# EAGLE library part TEXAS_INSTRUMENTS-MUX/DEMUX-SN74LVC2G157_DCU_8 (library Module_ICs)
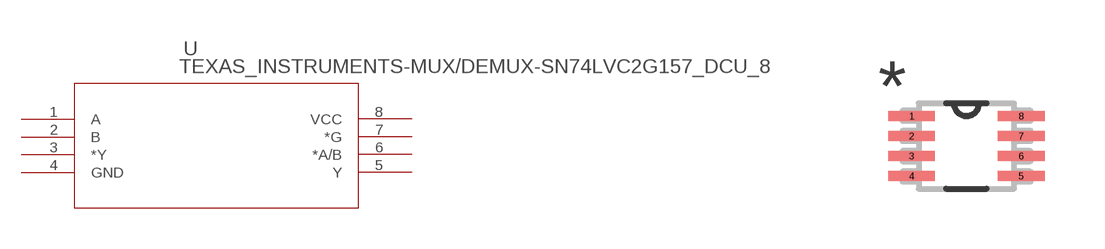
[diagram p10: symbol with the pads of TEXAS_INSTRUMENTS-MUX/DEMUX-SN74LVC2G157_DCU_8/SCHMITT_TRIGGER-SN74LVC3G17_DCU_8; footprint TEXAS_INSTRUMENTS-MUX/DEMUX-SN74LVC2G157_DCU_8/SCHMITT_TRIGGER-SN74LVC3G17_DCU_8]

Designator prefix U

## TEXAS_INSTRUMENTS-MUX/DEMUX-SN74LVC2G157_DCU_8 (DATASHEETURL: httpwww.ti.comlitgpnSN74LVC2G157; FAMILY_NAME: LL Decoder MuxDemux; GENERIC_PART_NUMBER: SN74LVC2G157; INDUSTRY_STD_PKG_TYPE: US8; MANUFACTURER: Texas Instruments; MANUFACTURER_PART_NUMBER: sn74lvc2g157_dcu_8; PACKAGE_DESIGNATOR: DCU; PIN_COUNT: 8; VENDOR: Texas Instruments)  [TEXAS_INSTRUMENTS-MUX/DEMUX-SN74LVC2G157_DCU_8/SCHMITT_TRIGGER-SN74LVC3G17_DCU_8]
1  A  in
2  B  in
3  *Y  out
4  GND  pwr
5  Y  out
6  *A/B  in
7  *G  in
8  VCC  pwr

## Footprint TEXAS_INSTRUMENTS-MUX/DEMUX-SN74LVC2G157_DCU_8/SCHMITT_TRIGGER-SN74LVC3G17_DCU_8 (pad centres in mm)
smd 1.168 x 0.254: 1 -1.372,0.75; 2 -1.372,0.25; 3 -1.372,-0.25; 4 -1.372,-0.75; 5 1.372,-0.75; 6 1.372,-0.25; 7 1.372,0.25; 8 1.372,0.75